# Altium footprint library 整流桥.PcbLib: 18 footprints (part 1 of 2)
Each footprint in its own frame and in the unit in brackets; x right, y up, seen from the top. Pads: shape width x height; smd on the part's side, far side on the other; paste and mask are expansions set on the pad; w line width, h text height; cw(c..) or ccw(c..) is an arc to the next point about the centre after c.
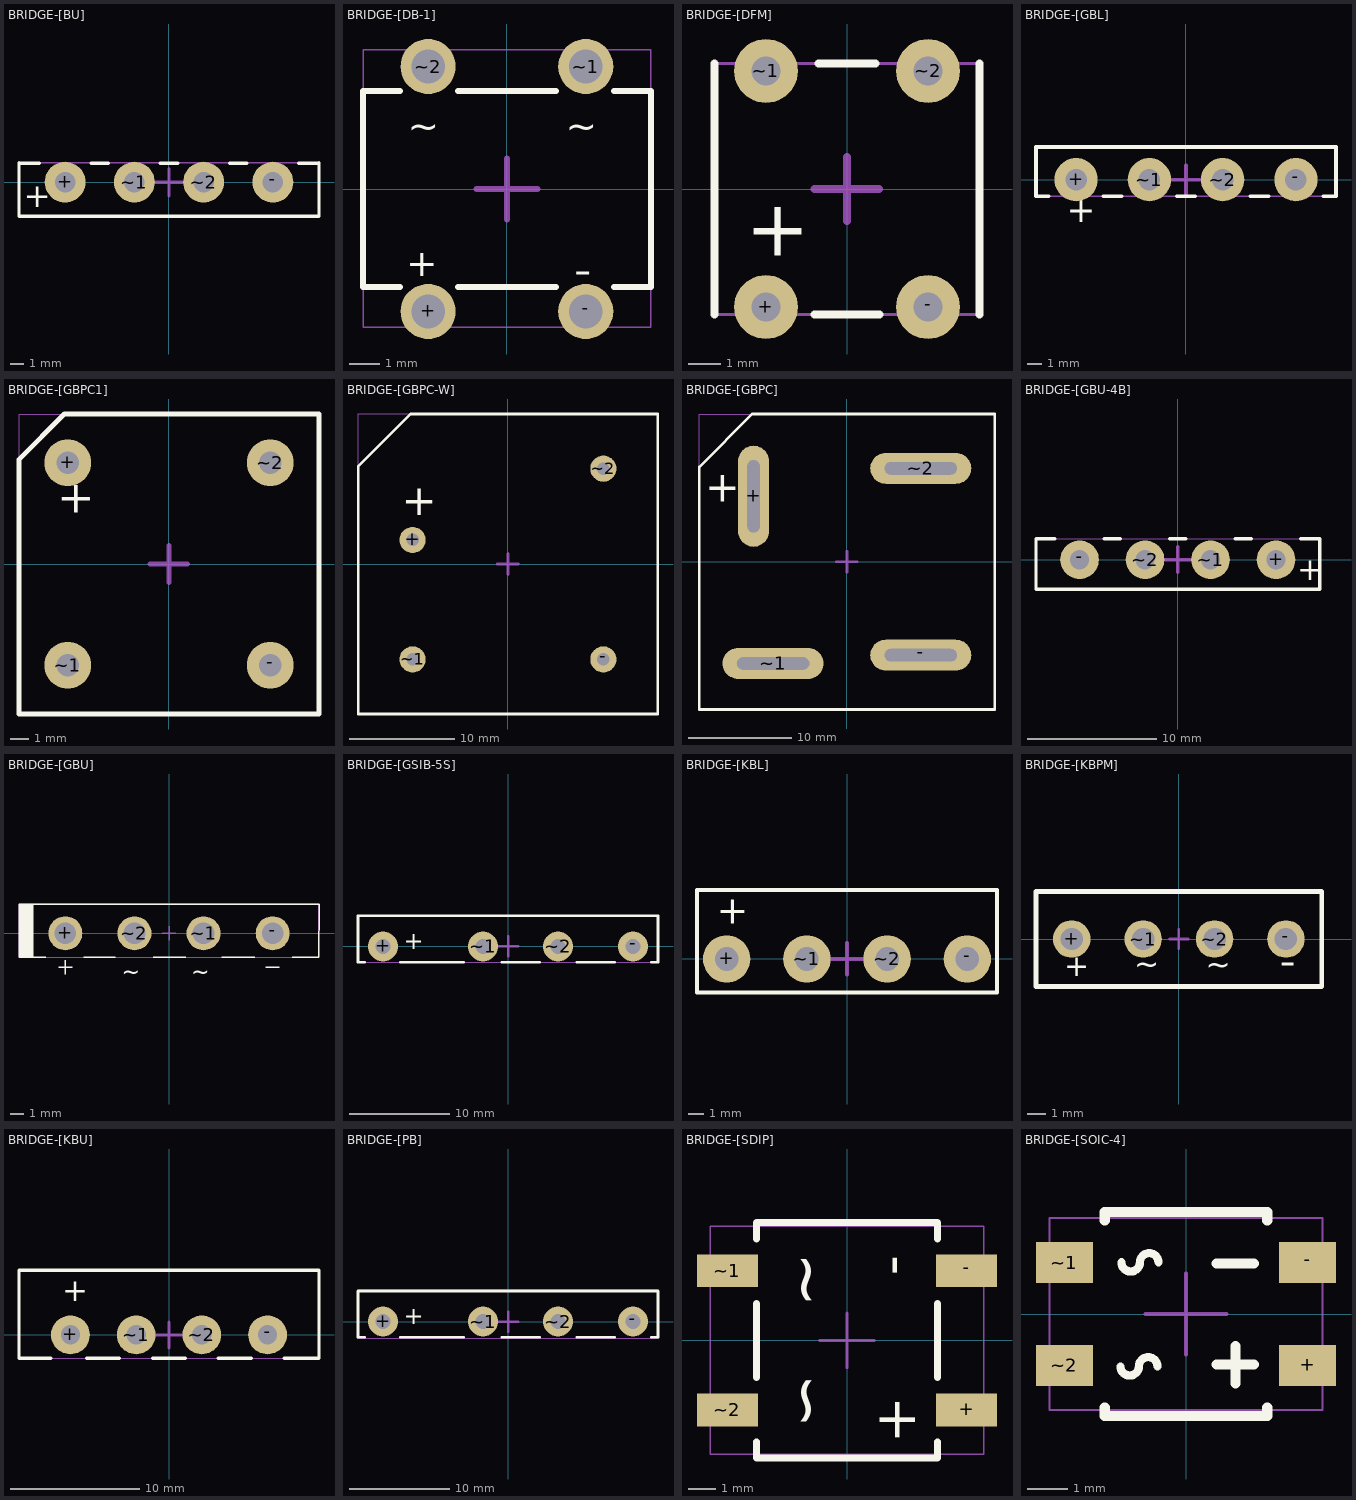
[diagram p0: the footprints below, top view; thin cyan lines are the x and y axes]

## BRIDGE-[BU] [mm] "整流桥 BU"
height 50
pads (4):
  round 3 hole 1.5: +(-7.62,0) -(7.62,0) ~1(-2.54,0) ~2(2.54,0)
Top Overlay:
  lines w0.25: -9.525,1.397 -10.987,1.397 -11,1.41 -11,-2.5 11,-2.5 11,1.41 10.987,1.397 9.525,1.397 ; -5.715,1.397 -4.445,1.397 ; -0.635,1.397 0.635,1.397 ; 4.445,1.397 5.715,1.397
  text "+" at -10.668,-2.413 h3
Mechanical 13:
  lines w0.1: -11,-2.5 11,-2.5 11,1.41 -11,1.41 -11,-2.5
Mechanical 15:
  lines w0.25: -1.016,0 1,0 ; 0,-1 0,1
3D body: height 28.6, standoff -8, extent -11,-2.5 11,1.41

## BRIDGE-[DB-1] [mm] "DIP整流桥"
height 5.33
pads (4):
  round 1.8 hole 1.1: +(-2.575,-4) -(2.575,-4) ~1(2.575,4) ~2(-2.575,4)
Top Overlay:
  lines w0.2: -3.5,-3.2 -4.7,-3.2 -4.7,3.2 -3.5,3.2 ; -1.6,-3.2 1.6,-3.2 ; -1.6,3.2 1.6,3.2 ; 3.5,-3.2 4.7,-3.2 4.7,3.2 3.5,3.2
  text "~" at 2.946,2.692 h1.52
  text "~" at -2.21,2.692 h1.52
  text "-" at 2.769,-1.956 h2
  text "+" at -2.261,-1.803 h1.52
Mechanical 13:
  lines w0.05: -4.7,-4.523 -4.7,4.547 4.7,4.547 4.7,-4.523 -4.7,-4.523
Mechanical 15:
  lines w0.2: -1,0 1,0 ; 0,-1 0,1
3D body: height 4.3, standoff -3.27, extent -4.7,-4.523 4.7,4.547

## BRIDGE-[DFM] [mm] "整流桥 DFM"
height 5
pads (4):
  round 2 hole 0.9: +(-2.54,-3.7) -(2.54,-3.7) ~1(-2.54,3.7) ~2(2.54,3.7)
Top Overlay:
  lines w0.25: -4.157,-3.937 -4.157,3.937 ; -1.016,-3.937 1.016,-3.937 ; -0.889,3.937 0.889,3.937 ; 4.157,-3.937 4.157,3.937
  text "+" at -3.175,-2.667 h3
Mechanical 13:
  lines w0.1: -4.157,-3.937 -4.157,3.937 4.157,3.937 4.157,-3.937 -4.157,-3.937
Mechanical 15:
  lines w0.25: -1.016,0 1,0 ; 0,-1 0,1
3D body: height 3.6, standoff -3.86, extent -4.157,-3.937 4.157,3.937

## BRIDGE-[GBL] [mm] "整流桥 GBL"
pads (4):
  round 3 hole 1.5: +(-7.62,0) -(7.62,0) ~1(-2.54,0) ~2(2.54,0)
Top Overlay:
  lines w0.254: -9.525,-1.14 -10.4,-1.14 -10.4,2.26 10.4,2.26 10.4,-1.14 9.525,-1.14 ; -5.715,-1.143 -4.445,-1.143 ; -0.635,-1.14 0.635,-1.14 ; 4.445,-1.14 5.715,-1.14
  text "+" at -8.255,-3.556 h3
Mechanical 13:
  lines w0.1: -10.4,-1.14 10.4,-1.14 10.4,2.26 -10.4,2.26 -10.4,-1.14
Mechanical 15:
  lines w0.25: -1.016,0 1,0 ; 0,-1 0,1
3D body: height 20.55, standoff -7.5, extent -10.4,-1.14 10.4,2.26

## BRIDGE-[GBPC1] [mm] "整流桥 GBPC1"
height 30
pads (4):
  round 2.5 hole 1.2: +(-5.4,5.4) -(5.4,-5.4) ~1(-5.4,-5.4) ~2(5.4,5.4)
Top Overlay:
  lines w0.254: -8,-8.005 8,-8.005 8,8.005 -5.584,8.005 -8,5.589 -8,-8.005
  text "+" at -5.969,2.159 h3
Mechanical 13:
  lines w0.05: -8,-8.005 -8,8.005 8,8.005 8,-8.005 -8,-8.005
Mechanical 15:
  lines w0.25: -1.016,0 1,0 ; 0,-1 0,1
3D body: height 5.08, standoff -3.5, extent -8,-8.005 8,8.005

## BRIDGE-[GBPC-W] [mm] "整流桥 GBPC-W"
height 25
pads (4):
  round 2.5 hole 1.2: +(-9.1,2.3) -(9.1,-9.1) ~1(-9.1,-9.1) ~2(9.1,9.1)
Top Overlay:
  lines w0.254: -14.3,-14.31 -14.3,9.322 -9.307,14.315 14.3,14.315 14.3,-14.31 -14.3,-14.31
  text "+" at -10.16,3.683 h5
Mechanical 13:
  lines w0.1: -14.3,-14.31 -14.3,14.315 14.3,14.315 14.3,-14.31 -14.3,-14.31
Mechanical 15:
  lines w0.25: -1.016,0 1,0 ; 0,-1 0,1
3D body: height 8.6, standoff -4, extent -14.3,-14.31 14.3,14.315

## BRIDGE-[GBPC] [mm] "整流桥 GBPC"
height 20
pads (4):
  oval 3x9.8 hole 1.2 slot 7 at 90 deg: +(-9.05,6.35)
  oval 9.8x3 hole 1.2 slot 7 at 0 deg: -(7.15,-9.05) ~1(-7.16,-9.85) ~2(7.15,9.05)
Top Overlay:
  lines w0.254: -14.3,-14.31 -14.3,9.195 -9.18,14.315 14.3,14.315 14.3,-14.31 -14.3,-14.31
  text "+" at -13.716,4.826 h5
Mechanical 13:
  lines w0.1: -14.3,-14.31 -14.3,14.315 14.3,14.315 14.3,-14.31 -14.3,-14.31
Mechanical 15:
  lines w0.25: -1.016,0 1,0 ; 0,-1 0,1
3D body: height 9.61, standoff -10.4, extent -14.3,-14.31 14.3,14.315

## BRIDGE-[GBU-4B] [mm] "整流桥 GBU-4B"
height 25
pads (4):
  round 3 hole 1.5: +(7.62,0) -(-7.62,0) ~1(2.54,0) ~2(-2.54,0)
Top Overlay:
  lines w0.254: -9.525,1.62 -11,1.62 -11,-2.29 11,-2.29 11,1.62 ; -5.715,1.62 -4.445,1.62 ; -0.635,1.62 0.635,1.62 ; 4.445,1.62 5.715,1.62 ; 9.525,1.62 10.922,1.62
  text "+" at 9.271,-2.159 h3
Mechanical 13:
  lines w0.05: -11,-2.29 11,-2.29 11,1.62 -11,1.62 -11,-2.29
Mechanical 15:
  lines w0.25: -1.016,0 1,0 ; 0,-1 0,1
3D body: height 23.6, standoff -4.8, extent -11,-2.29 11,1.62

## BRIDGE-[GBU] [mm] "GBU8K整流桥"
height 21
pads (4):
  round 2.5 hole 1.6: +(-7.62,0) -(7.62,0) ~1(2.54,0) ~2(-2.54,0)
Top Overlay:
  region: -9.957,2.15 -11.025,2.15 -11.025,-1.751 -9.957,-1.751
  lines w0.1: -9.042,-1.751 -11.025,-1.751 -11.025,2.15 11.025,2.15 11.025,-1.751 9.042,-1.751 ; -8.12,-2.5 -7.12,-2.5 ; -7.62,-3 -7.62,-2 ; -6.248,-1.751 -3.937,-1.751 ; -1.143,-1.751 1.219,-1.751 ; 3.861,-1.751 6.299,-1.751 ; 7.12,-2.5 8.12,-2.5
  text "~" at -2.1,-2 h2
  text "~" at 3,-2 h2
Mechanical 13:
  lines w0.05: -11,-1.751 -11,2.159 11,2.159 11,-1.751 -11,-1.751
Mechanical 15:
  lines w0.1: -0.5,0 0.5,0 ; 0,-0.5 0,0.5
3D body: height 23.6, standoff -4.8, extent -11,-1.751 11,2.159

## BRIDGE-[GSIB-5S] [mm] "整流桥 GSIB-5S"
height 30
pads (4):
  round 3 hole 1.5: +(-12.5,0) -(12.5,0) ~1(-2.5,0) ~2(5,0)
Top Overlay:
  lines w0.254: -14.351,-1.56 -15,-1.56 -15,3.05 15,3.05 15,-1.56 ; -10.795,-1.56 -4.445,-1.56 ; -0.635,-1.56 3.175,-1.56 ; 6.858,-1.56 10.668,-1.56 ; 14.351,-1.56 14.986,-1.56
  text "+" at -10.414,-0.889 h3
Mechanical 13:
  lines w0.05: -15,-1.56 15,-1.56 15,3.05 -15,3.05 -15,-1.56
Mechanical 15:
  lines w0.25: -1.016,0 1,0 ; 0,-1 0,1
3D body: height 25, standoff -12.5, extent -15,-1.56 15,3.05

## BRIDGE-[KBL] [mm] "整流桥 KBL"
height 20
pads (4):
  round 3 hole 1.5: +(-7.62,0) -(7.62,0) ~1(-2.54,0) ~2(2.54,0)
Top Overlay:
  lines w0.254: -9.5,-2.125 -9.5,4.375 9.5,4.375 9.5,-2.125 -9.5,-2.125
  text "+" at -8.255,1.651 h3
Mechanical 13:
  lines w0.05: -9.5,-2.125 9.5,-2.125 9.5,4.375 -9.5,4.375 -9.5,-2.125
Mechanical 15:
  lines w0.25: -1.016,0 1,0 ; 0,-1 0,1
3D body: height 19.7, standoff -4, extent -9.5,-2.125 9.5,4.375

## BRIDGE-[KBPM] [mm] "KBP整流桥"
height 12.7
pads (4):
  round 2 hole 1.2: +(-5.715,0) -(5.715,0) ~1(-1.905,0) ~2(1.905,0)
Top Overlay:
  lines w0.254: -7.62,-2.54 -7.62,2.54 7.62,2.54 7.62,-2.54 -7.62,-2.54
  text "+" at -6.121,-2.388 h2
  text "-" at 5.385,-2.54 h3
  text "~" at -2.388,-2.286 h2
  text "~" at 1.448,-2.311 h2
Mechanical 15:
  lines w0.15: -0.5,0 0.5,0 ; 0,-0.5 0,0.5
3D body: height 14, standoff -2, extent -7.518,-2.489 7.482,2.511

## BRIDGE-[KBU] [mm] "整流桥 KBU"
height 15
pads (4):
  round 3 hole 1.5: +(-7.62,0) -(7.62,0) ~1(-2.54,0) ~2(2.54,0)
Top Overlay:
  lines w0.254: -9.144,-1.8 -11.6,-1.8 -11.6,5 11.6,5 11.6,-1.8 8.89,-1.8 ; -6.35,-1.8 -3.832,-1.8 ; -1.27,-1.8 1.27,-1.8 ; 3.81,-1.8 6.35,-1.8
  text "+" at -8.255,2.032 h3
Mechanical 13:
  lines w0.05: -11.6,-1.8 -11.6,5 11.6,5 11.6,-1.8 -11.6,-1.8
Mechanical 15:
  lines w0.25: -1.016,0 1,0 ; 0,-1 0,1
3D body: height 22.3, standoff -5, extent -11.6,-1.8 11.6,5

## BRIDGE-[PB] [mm] "整流桥 PB"
height 50
pads (4):
  round 3 hole 1.5: +(-12.5,0) -(12.5,0) ~1(-2.5,0) ~2(5,0)
Top Overlay:
  lines w0.254: -14.351,-1.56 -15,-1.56 -15,3.05 15,3.05 15,-1.56 ; -10.795,-1.56 -4.445,-1.56 ; -0.635,-1.56 3.175,-1.56 ; 6.858,-1.56 10.668,-1.56 ; 14.351,-1.56 14.986,-1.56
  text "+" at -10.414,-0.889 h3
Mechanical 13:
  lines w0.05: -15,-1.66 -15,3.16 15,3.16 15,-1.66 -15,-1.66
Mechanical 15:
  lines w0.25: -1.016,0 1,0 ; 0,-1 0,1
3D body: height 28, standoff -9.5, extent -15,-1.66 15,3.16

## BRIDGE-[SDIP] [mm] "贴片整流桥"
height 3.5
pads (4):
  rect 2.22x1.2 smd: +(4.365,-2.54) -(4.365,2.54) ~1(-4.365,2.54) ~2(-4.365,-2.54)
Top Overlay:
  lines w0.254: -3.3,-3.7 -3.3,-4.3 3.3,-4.3 3.3,-3.7 ; -3.3,-1.35 -3.3,1.35 ; -3.3,3.7 -3.3,4.3 3.3,4.3 3.3,3.7 ; 3.3,-1.35 3.3,1.35
  text "-" at 1.194,3.099 h1.5
  text "+" at 1.194,-2.032 h1.5
  text "~" at -2.819,3.226 h3
  text "~" at -2.819,-3.226 h3
Mechanical 13:
  lines w0.05: -5,-4.154 -5,4.166 5,4.166 5,-4.154 -5,-4.154
Mechanical 15:
  lines w0.1: -1,0 1,0 ; 0,-1 0,1
3D body: height 3.4, standoff 0, extent -5,-4.154 5,4.166

## BRIDGE-[SOIC-4] [mm] "整流桥"
height 12.3
pads (4):
  rect 1.4x1 smd: +(3,-1.27) -(3,1.27) ~1(-3,1.27) ~2(-3,-1.27)
Top Overlay:
  lines w0.2: -1.62,-1.29 ccw(c-1.392,-1.29) -1.163,-1.29 cw(c-0.934,-1.29) -0.706,-1.29 ; -1.595,1.275 ccw(c-1.366,1.275) -1.138,1.275 cw(c-0.909,1.275) -0.68,1.275
  lines w0.254: -2.007,-2.311 -2.007,-2.515 2.007,-2.515 2.007,-2.311 ; -2.007,2.311 -2.007,2.515 2.007,2.515 2.007,2.311 ; 0.762,-1.245 1.676,-1.245 ; 0.762,1.245 1.676,1.245 ; 1.219,-1.707 1.219,-0.787
Mechanical 13:
  lines w0.05: -3.363,-2.363 -3.363,2.362 3.363,2.362 3.363,-2.363 -3.363,-2.363
Mechanical 15:
  lines w0.1: -1,0 1,0 ; 0,-1 0,1
3D body: height 2.78, standoff 0.03, extent -3.363,-2.363 3.363,2.362